# Altium footprint library idl-fixed_new.PCBLIB: 92 footprints (part 5 of 6)
Each footprint in its own frame and in the unit in brackets; x right, y up, seen from the top. Pads: shape width x height; smd on the part's side, far side on the other; paste and mask are expansions set on the pad; w line width, h text height; cw(c..) or ccw(c..) is an arc to the next point about the centre after c.
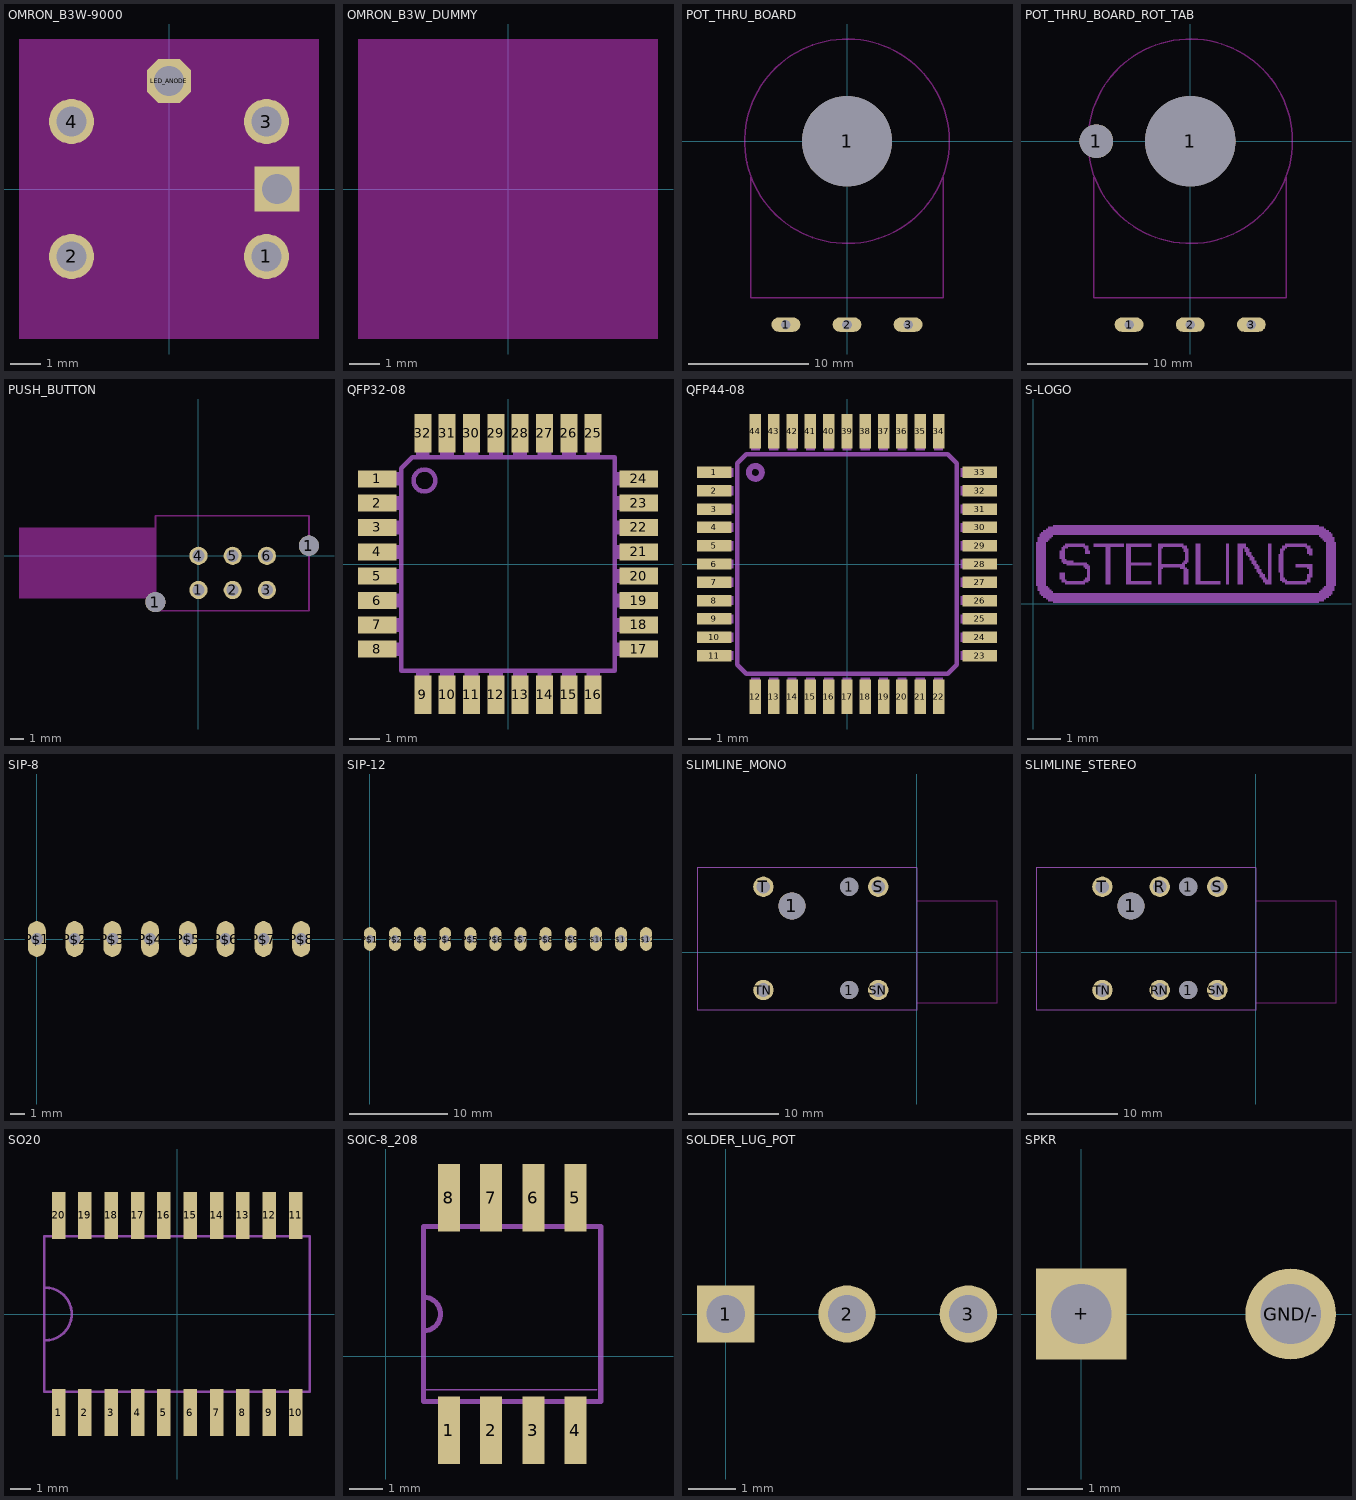
[diagram p4: the footprints below, top view; thin cyan lines are the x and y axes]

## OMRON_B3W-9000 [mm]
pads (6):
  round 1.5 hole 1: 1(3.25,-2.25) 2(-3.25,-2.25) 3(3.25,2.25) 4(-3.25,2.25)
  oct 1.452x1.452 hole 1: LED_ANODE(0,3.6)
  rect 1.5x1.5 hole 1: LED_CATHODE(3.6,0)
Keep-Out Layer:
  rectangle: -5,-5 5,5

## OMRON_B3W_DUMMY [mil]
Keep-Out Layer:
  rectangle: -196.85,-196.85 196.85,196.85

## POT_THRU_BOARD [mil]
pads (4):
  oval 94.5x47.25 hole 31.5: 1(-200,-600) 2(0,-600) 3(200,-600)
  round 295.28 hole 295.28: 1(0,0)
Keep-Out Layer:
  circle w5: c0,0 r334.65
  lines w5: -314.96,-118.11 -314.96,-511.81 314.96,-511.81 314.96,-118.11

## POT_THRU_BOARD_ROT_TAB [mil]
pads (5):
  round 110.24 hole 110.24: 1(-307.09,0)
  oval 94.5x47.25 hole 31.5: 1(-200,-600) 2(0,-600) 3(200,-600)
  round 295.28 hole 295.28: 1(0,0)
Keep-Out Layer:
  circle w5: c0,0 r334.65
  lines w5: -314.96,-118.11 -314.96,-511.81 314.96,-511.81 314.96,-118.11

## PUSH_BUTTON [mil]
pads (8):
  round 59.06 hole 59.06: 1(-126,-135.47) 1(323,29.53)
  round 53.15 hole 35.43: 1(0,-100) 2(100,-100) 3(200,-100) 4(0,0) 5(100,0) 6(200,0)
Keep-Out Layer:
  rectangle: -525,-125 -126,83
  lines w5: -126,-160.47 -126,117 323,117 323,-160.47 -126,-160.47

## QFP32-08 [mil]
pads (32):
  rect 50x22 smd: 1(-169,110.24) 2(-169,78.74) 3(-169,47.24) 4(-169,15.75) 5(-169,-15.75) 6(-169,-47.24) 7(-169,-78.74) 8(-169,-110.24) 17(169,-110.24) 18(169,-78.74) 19(169,-47.24) 20(169,-15.75) 21(169,15.75) 22(169,47.24) 23(169,78.74) 24(169,110.24)
  rect 22x50 smd: 9(-110.24,-169) 10(-78.74,-169) 11(-47.24,-169) 12(-15.75,-169) 13(15.75,-169) 14(47.24,-169) 15(78.74,-169) 16(110.24,-169) 25(110.24,169) 26(78.74,169) 27(47.24,169) 28(15.75,169) 29(-15.75,169) 30(-47.24,169) 31(-78.74,169) 32(-110.24,169)
Mechanical 2:
  circle w6: c-108,108 r14.14
  lines w6: -137.99,-137.99 137.99,-137.99 137.99,137.99 -124.02,137.99 -137.99,124.02 -137.99,-137.99
Mechanical 18:
  rectangle: -179,101.24 -140,119.24
  rectangle: -179,69.74 -140,87.74
  rectangle: -179,38.24 -140,56.24
  rectangle: -179,6.75 -140,24.75
  rectangle: -179,-24.75 -140,-6.75
  rectangle: -179,-56.24 -140,-38.24
  rectangle: -179,-87.74 -140,-69.74
  rectangle: -179,-119.24 -140,-101.24
  rectangle: -119.24,-179 -101.24,-140
  rectangle: -87.74,-179 -69.74,-140
  rectangle: -56.24,-179 -38.24,-140
  rectangle: -24.75,-179 -6.75,-140
  rectangle: 6.75,-179 24.75,-140
  rectangle: 38.24,-179 56.24,-140
  rectangle: 69.74,-179 87.74,-140
  rectangle: 101.24,-179 119.24,-140
  rectangle: 140,-119.24 179,-101.24
  rectangle: 140,-87.74 179,-69.74
  rectangle: 140,-56.24 179,-38.24
  rectangle: 140,-24.75 179,-6.75
  rectangle: 140,6.75 179,24.75
  rectangle: 140,38.24 179,56.24
  rectangle: 140,69.74 179,87.74
  rectangle: 140,101.24 179,119.24
  rectangle: 101.24,140 119.24,179
  rectangle: 69.74,140 87.74,179
  rectangle: 38.24,140 56.24,179
  rectangle: 6.75,140 24.75,179
  rectangle: -24.75,140 -6.75,179
  rectangle: -56.24,140 -38.24,179
  rectangle: -87.74,140 -69.74,179
  rectangle: -119.24,140 -101.24,179

## QFP44-08 [mil]
pads (44):
  rect 59.06x19.69 smd: 1(-228.35,157.48) 2(-228.35,125.98) 3(-228.35,94.49) 4(-228.35,62.99) 5(-228.35,31.5) 6(-228.35,0) 7(-228.35,-31.5) 8(-228.35,-62.99) 9(-228.35,-94.49) 10(-228.35,-125.98) 11(-228.35,-157.48) 23(228.35,-157.48) 24(228.35,-125.98) 25(228.35,-94.49) 26(228.35,-62.99) 27(228.35,-31.5) 28(228.35,0) 29(228.35,31.5) 30(228.35,62.99) 31(228.35,94.49) 32(228.35,125.98) 33(228.35,157.48)
  rect 19.69x59.06 smd: 12(-157.48,-228.35) 13(-125.98,-228.35) 14(-94.49,-228.35) 15(-62.99,-228.35) 16(-31.5,-228.35) 17(0,-228.35) 18(31.5,-228.35) 19(62.99,-228.35) 20(94.49,-228.35) 21(125.98,-228.35) 22(157.48,-228.35) 34(157.48,228.35) 35(125.98,228.35) 36(94.49,228.35) 37(62.99,228.35) 38(31.5,228.35) 39(0,228.35) 40(-31.5,228.35) 41(-62.99,228.35) 42(-94.49,228.35) 43(-125.98,228.35) 44(-157.48,228.35)
Mechanical 2:
  circle w10: c-157.48,157.48 r11.13
  lines w8: -188.98,-173.23 -173.23,-188.98 173.23,-188.98 188.98,-173.23 188.98,173.23 173.23,188.98 -173.23,188.98 -188.98,173.23 -188.98,-173.23
Mechanical 18:
  rectangle: -240.16,149.61 -194.88,165.35
  rectangle: -240.16,118.11 -194.88,133.86
  rectangle: -240.16,86.61 -194.88,102.36
  rectangle: -240.16,55.12 -194.88,70.87
  rectangle: -240.16,23.62 -194.88,39.37
  rectangle: -240.16,-7.87 -194.88,7.87
  rectangle: -240.16,-39.37 -194.88,-23.62
  rectangle: -240.16,-70.87 -194.88,-55.12
  rectangle: -240.16,-102.36 -194.88,-86.61
  rectangle: -240.16,-133.86 -194.88,-118.11
  rectangle: -240.16,-165.35 -194.88,-149.61
  rectangle: -165.35,-240.16 -149.61,-194.88
  rectangle: -133.86,-240.16 -118.11,-194.88
  rectangle: -102.36,-240.16 -86.61,-194.88
  rectangle: -70.87,-240.16 -55.12,-194.88
  rectangle: -39.37,-240.16 -23.62,-194.88
  rectangle: -7.87,-240.16 7.87,-194.88
  rectangle: 23.62,-240.16 39.37,-194.88
  rectangle: 55.12,-240.16 70.87,-194.88
  rectangle: 86.61,-240.16 102.36,-194.88
  rectangle: 118.11,-240.16 133.86,-194.88
  rectangle: 149.61,-240.16 165.35,-194.88
  rectangle: 194.88,-165.35 240.16,-149.61
  rectangle: 194.88,-133.86 240.16,-118.11
  rectangle: 194.88,-102.36 240.16,-86.61
  rectangle: 194.88,-70.87 240.16,-55.12
  rectangle: 194.88,-39.37 240.16,-23.62
  rectangle: 194.88,-7.87 240.16,7.87
  rectangle: 194.88,23.62 240.16,39.37
  rectangle: 194.88,55.12 240.16,70.87
  rectangle: 194.88,86.61 240.16,102.36
  rectangle: 194.88,118.11 240.16,133.86
  rectangle: 194.88,149.61 240.16,165.35
  rectangle: 149.61,194.88 165.35,240.16
  rectangle: 118.11,194.88 133.86,240.16
  rectangle: 86.61,194.88 102.36,240.16
  rectangle: 55.12,194.88 70.87,240.16
  rectangle: 23.62,194.88 39.37,240.16
  rectangle: -7.87,194.88 7.87,240.16
  rectangle: -39.37,194.88 -23.62,240.16
  rectangle: -70.87,194.88 -55.12,240.16
  rectangle: -102.36,194.88 -86.61,240.16
  rectangle: -133.86,194.88 -118.11,240.16
  rectangle: -165.35,194.88 -149.61,240.16

## S-LOGO [mil]
Mechanical 2:
  drawing of 358 lines, arcs and shapes, not listed

## SIP-8 [mil]
pads (8):
  oval 47.25x94.5 hole 31.5: P$1(0,0) P$2(100,0) P$3(200,0) P$4(300,0) P$5(400,0) P$6(500,0) P$7(600,0) P$8(700,0)

## SIP-12 [mil]
pads (12):
  oval 47.25x94.5 hole 31.5: P$1(0,0) P$2(100,0) P$3(200,0) P$4(300,0) P$5(400,0) P$6(500,0) P$7(600,0) P$8(700,0) P$9(800,0) P$10(900,0) P$11(1000,0) P$12(1100,0)

## SLIMLINE_MONO [mm]
pads (7):
  round 3 hole 3: 1(-13.8,5.1)
  round 2 hole 2: 1(-7.45,-4.2) 1(-7.45,7.23)
  round 2.25 hole 1.5: S(-4.25,7.23) SN(-4.25,-4.2) T(-16.95,7.23) TN(-16.95,-4.2)
Keep-Out Layer:
  lines w0.127: 0,-5.6 8.9,-5.6 8.9,5.6 0,5.6
Mechanical 2:
  lines w0.127: -24.3,-6.43 0,-6.43 0,-5.6 0,5.6 0,9.32 -24.3,9.32 -24.3,-6.43

## SLIMLINE_STEREO [mm]
pads (9):
  round 3 hole 3: 1(-13.8,5.1)
  round 2 hole 2: 1(-7.45,-4.2) 1(-7.45,7.23)
  round 2.25 hole 1.5: R(-10.6,7.23) RN(-10.6,-4.2) S(-4.25,7.23) SN(-4.25,-4.2) T(-16.95,7.23) TN(-16.95,-4.2)
Keep-Out Layer:
  lines w0.127: 0,-5.6 8.9,-5.6 8.9,5.6 0,5.6
Mechanical 2:
  lines w0.127: -24.3,-6.43 0,-6.43 0,-5.6 0,5.6 0,9.32 -24.3,9.32 -24.3,-6.43

## SO20 [mm]
pads (20):
  rect 0.65x2.25 smd: 1(-5.715,-4.75) 2(-4.445,-4.75) 3(-3.175,-4.75) 4(-1.905,-4.75) 5(-0.635,-4.75) 6(0.635,-4.75) 7(1.905,-4.75) 8(3.175,-4.75) 9(4.445,-4.75) 10(5.715,-4.75) 11(5.715,4.75) 12(4.445,4.75) 13(3.175,4.75) 14(1.905,4.75) 15(0.635,4.75) 16(-0.635,4.75) 17(-1.905,4.75) 18(-3.175,4.75) 19(-4.445,4.75) 20(-5.715,4.75)
Mechanical 2:
  lines w0.127: -6.35,-1.27 ccw(c-6.35,0) -6.35,1.27 ; -6.4,-3.75 6.4,-3.75 6.4,3.75 -6.4,3.75 -6.4,-3.75

## SOIC-8_208 [mil]
pads (8):
  rect 26x80 smd: 1(75,-87.73) 2(125,-87.73) 3(175,-87.73) 4(225,-87.73) 5(225,187.73) 6(175,187.73) 7(125,187.73) 8(75,187.73)
Mechanical 2:
  lines w2: 45.08,-39.57 250,-39.57
  lines w6: 45.08,30 45.08,70 ; 45.08,30 45.08,-53.57 254.92,-53.57 254.92,153.57 45.08,153.57 45.08,70 ; 45.08,30 ccw(c45.08,50) 45.08,70
Mechanical 18:
  rectangle: 215,153.57 235,208.46
  rectangle: 65,-108.46 85,-53.57
  rectangle: 115,-108.46 135,-53.57
  rectangle: 165,-108.46 185,-52.57
  rectangle: 215,-108.46 235,-53.57
  rectangle: 165,153.57 185,208.46
  rectangle: 115,153.57 135,208.46
  rectangle: 65,153.57 85,208.46

## SOLDER_LUG_POT [mil]
pads (3):
  rect 47.25x47.25 hole 31.5: 1(0,0)
  round 47.25 hole 31.5: 2(100,0) 3(200,0)

## SPKR [mil]
pads (2):
  rect 64.97x64.97 hole 43.31: +(0,0)
  round 64.97 hole 43.31: GND/-(150,0)